# Altium schematic symbol library Schlib1.SchLib: 20 symbols
Pins are listed as number, name and electrical type; pins without a type are passive.

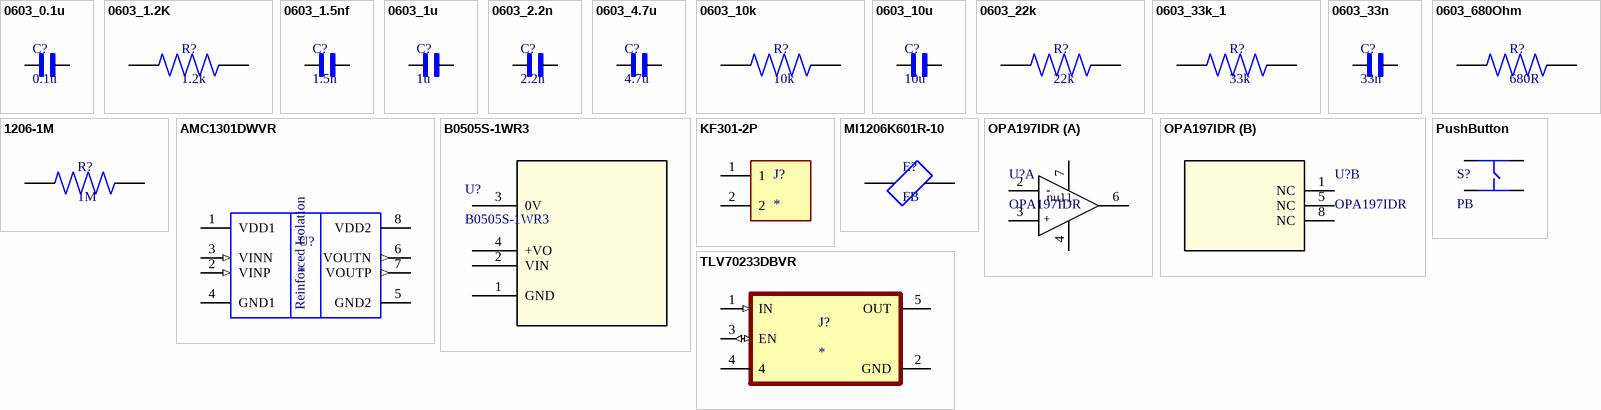
[diagram p0: symbols 0603_0.1u to TLV70233DBVR]

## 0603_0.1u
designator C?, comment 0.1u
100nf,X7R,50V; MF: AVX; MP: 0603YC223KAT2A; SnapEDA_Link: https://www.snapeda.com/parts/0603YC223KAT2A/AVX/view-part/?ref=snap; Package: 1608 AVX; Value: *; Check_prices: https://www.snapeda.com/parts/0603YC223KAT2A/AVX/view-part/?ref=eda
footprint 0603Capacitor
pins: 1, 2

## 0603_1.2K
designator R?, comment 1.2k
1.2k (0.1%-0.5%); MF: Bourns; MP: CRT0603-FY-1000ELF; Purchase-URL: https://pricing.snapeda.com/search/part/CRT0603-FY-1000ELF/?ref=eda; Value: *; SnapEDA_Link: https://www.snapeda.com/parts/CRT0603-FY-1000ELF/Bourns/view-part/?ref=snap; Package: 1508 Bourns; Check_prices: https://www.snapeda.com/parts/CRT0603-FY-1000ELF/Bourns/view-part/?ref=eda; Digi-Key_Part_Number: 118-CRT0603-FY-1000ELFTR-ND
footprint 0603Resistor
pins: 1, 2

## 0603_1.5nf
designator C?, comment 1.5n
1.5nf_C0G_50V; MF: AVX; MP: 0603YC223KAT2A; SnapEDA_Link: https://www.snapeda.com/parts/0603YC223KAT2A/AVX/view-part/?ref=snap; Package: 1608 AVX; Value: *; Check_prices: https://www.snapeda.com/parts/0603YC223KAT2A/AVX/view-part/?ref=eda
footprint 0603Capacitor
pins: 1, 2

## 0603_1u
designator C?, comment 1u
1uF,X7R,50V; MF: AVX; MP: 0603YC223KAT2A; SnapEDA_Link: https://www.snapeda.com/parts/0603YC223KAT2A/AVX/view-part/?ref=snap; Package: 1608 AVX; Value: *; Check_prices: https://www.snapeda.com/parts/0603YC223KAT2A/AVX/view-part/?ref=eda
footprint 0603Capacitor
pins: 1, 2

## 0603_2.2n
designator C?, comment 2.2n
2.2nF,C0G,50V; MF: AVX; MP: 0603YC223KAT2A; SnapEDA_Link: https://www.snapeda.com/parts/0603YC223KAT2A/AVX/view-part/?ref=snap; Package: 1608 AVX; Value: *; Check_prices: https://www.snapeda.com/parts/0603YC223KAT2A/AVX/view-part/?ref=eda
footprint 0603Capacitor
pins: 1, 2

## 0603_4.7u
designator C?, comment 4.7u
4.7uF,X7R,50V; MF: AVX; MP: 0603YC223KAT2A; SnapEDA_Link: https://www.snapeda.com/parts/0603YC223KAT2A/AVX/view-part/?ref=snap; Package: 1608 AVX; Value: *; Check_prices: https://www.snapeda.com/parts/0603YC223KAT2A/AVX/view-part/?ref=eda
footprint 0603Capacitor
pins: 1, 2

## 0603_10k
designator R?, comment 10k
10kOhm; MF: Bourns; MP: CRT0603-FY-1000ELF; Purchase-URL: https://pricing.snapeda.com/search/part/CRT0603-FY-1000ELF/?ref=eda; Value: *; SnapEDA_Link: https://www.snapeda.com/parts/CRT0603-FY-1000ELF/Bourns/view-part/?ref=snap; Package: 1508 Bourns; Check_prices: https://www.snapeda.com/parts/CRT0603-FY-1000ELF/Bourns/view-part/?ref=eda; Digi-Key_Part_Number: 118-CRT0603-FY-1000ELFTR-ND
footprint 0603Resistor
pins: 1, 2

## 0603_10u
designator C?, comment 10u
10uF,X7R,50V; MF: AVX; MP: 0603YC223KAT2A; SnapEDA_Link: https://www.snapeda.com/parts/0603YC223KAT2A/AVX/view-part/?ref=snap; Package: 1608 AVX; Value: *; Check_prices: https://www.snapeda.com/parts/0603YC223KAT2A/AVX/view-part/?ref=eda
footprint 0603Capacitor
pins: 1, 2

## 0603_22k
designator R?, comment 22k
22kOhm_0.1% to 0.5%; MF: Bourns; MP: CRT0603-FY-1000ELF; Purchase-URL: https://pricing.snapeda.com/search/part/CRT0603-FY-1000ELF/?ref=eda; Value: *; SnapEDA_Link: https://www.snapeda.com/parts/CRT0603-FY-1000ELF/Bourns/view-part/?ref=snap; Package: 1508 Bourns; Check_prices: https://www.snapeda.com/parts/CRT0603-FY-1000ELF/Bourns/view-part/?ref=eda; Digi-Key_Part_Number: 118-CRT0603-FY-1000ELFTR-ND
footprint 0603Resistor
pins: 1, 2

## 0603_33k_1
designator R?, comment 33k
33kOhm; MF: Bourns; MP: CRT0603-FY-1000ELF; Purchase-URL: https://pricing.snapeda.com/search/part/CRT0603-FY-1000ELF/?ref=eda; Value: *; SnapEDA_Link: https://www.snapeda.com/parts/CRT0603-FY-1000ELF/Bourns/view-part/?ref=snap; Package: 1508 Bourns; Check_prices: https://www.snapeda.com/parts/CRT0603-FY-1000ELF/Bourns/view-part/?ref=eda; Digi-Key_Part_Number: 118-CRT0603-FY-1000ELFTR-ND
footprint 0603Resistor
pins: 1, 2

## 0603_33n
designator C?, comment 33n
33nf_C0G_50V; MF: AVX; MP: 0603YC223KAT2A; SnapEDA_Link: https://www.snapeda.com/parts/0603YC223KAT2A/AVX/view-part/?ref=snap; Package: 1608 AVX; Value: *; Check_prices: https://www.snapeda.com/parts/0603YC223KAT2A/AVX/view-part/?ref=eda
footprint CAPC1206
pins: 1, 2

## 0603_680Ohm
designator R?, comment 680R
680Ohm-0.1%; MF: Bourns; MP: CRT0603-FY-1000ELF; Purchase-URL: https://pricing.snapeda.com/search/part/CRT0603-FY-1000ELF/?ref=eda; Value: *; SnapEDA_Link: https://www.snapeda.com/parts/CRT0603-FY-1000ELF/Bourns/view-part/?ref=snap; Package: 1508 Bourns; Check_prices: https://www.snapeda.com/parts/CRT0603-FY-1000ELF/Bourns/view-part/?ref=eda; Digi-Key_Part_Number: 118-CRT0603-FY-1000ELFTR-ND
footprint 0603Resistor
pins: 1, 2

## 1206-1M
designator R?, comment 1M
1M Ohms Â±1% 0.25W, 1/4W Chip Resistor 1206 (3216 Metric) Moisture Resistant Thick Film; MF: Yageo; MP: RC1206JR-0713RL; SnapEDA_Link: https://www.snapeda.com/parts/RC1206JR-0713RL/Yageo/view-part/?ref=snap; Package: 3116 Yageo; Value: *; Check_prices: https://www.snapeda.com/parts/RC1206JR-0713RL/Yageo/view-part/?ref=eda
footprint 1M_1206
pins: 1, 2

## AMC1301DWVR
designator U?
250 mV-Input Precision Reinforced Isolated Amplifier for Current Sensing 8-SOIC -40 to 125; MF: Texas Instruments; MP: AMC1301DWVR; Check_prices: https://www.snapeda.com/parts/AMC1301DWVR/Texas+Instruments/view-part/?ref=eda; SnapEDA_Link: https://www.snapeda.com/parts/AMC1301DWVR/Texas+Instruments/view-part/?ref=snap; Availability: In Stock; Price: None; Value: *; Package: SOIC-8 Texas Instruments; Purchase-URL: https://pricing.snapeda.com/search/part/AMC1301DWVR/?ref=eda
footprint AMC1301
pins: 1 VDD1 (power), 2 VINP (in), 3 VINN (in), 4 GND1 (power), 5 GND2 (power), 6 VOUTN (out), 7 VOUTP (out), 8 VDD2 (power)
text: Reinforced Isolation

## B0505S-1WR3
designator U?
Description; Manufacturer_Name: MORNSUN; Type: DC DC Converters; Copyright: Copyright (C) 2026 Ultra Librarian. All rights reserved.; Manufacturer_Part_Number: B0505S-1WR3; RefDes: RefDes
footprint B0505S
pins: 1 GND (power), 2 VIN (power), 3 0V, 4 +VO (power)

## KF301-2P
designator J?
2 Pin Terminal Block 5mm Pitch; MF: Handson Technology; MP: KF301-2P; SnapEDA_Link: https://www.snapeda.com/parts/KF301-2P/Handson+Technology/view-part/?ref=snap; Package: None; Value: *; Check_prices: https://www.snapeda.com/parts/KF301-2P/Handson+Technology/view-part/?ref=eda
footprint HANDSON_KF301-2P
pins: 1, 2

## MI1206K601R-10
designator E?, comment FB
600 Ohms @ 100 MHz 1 Power, Signal Line Ferrite Bead 1206 (3216 Metric) 1.5A 80mOhm; MF: Laird-Signal Integrity; MP: MI1206K601R-10; SnapEDA_Link: https://www.snapeda.com/parts/MI1206K601R-10/Laird-Signal+Integrity+Products/view-part/?ref=snap; Package: 1206 Laird; Value: *; Check_prices: https://www.snapeda.com/parts/MI1206K601R-10/Laird-Signal+Integrity+Products/view-part/?ref=eda
footprint FB_MI1206K601R-10
pins: 1, 2

## OPA197IDR
designator U?
Single, 36-V, precision, rail-to-rail input output, low offset voltage op amp 8-SOIC -40 to 125; Manufacturer_Name: Texas Instruments; TYPE: TYPE; RefDes: RefDes; Copyright: Copyright (C) 2026 Ultra Librarian. All rights reserved.; Manufacturer_Part_Number: OPA197IDR
footprint D0008A-MFG
part A pins: 2 -IN (hiz), 3 +IN (hiz), 4 V- (power), 6 OUT, 7 V+ (power)
part B pins: 1 NC, 5 NC, 8 NC
part A text: -; null; +

## PushButton
designator S?, comment PB
footprint Push_button
pins: 1, 2, 3, 4

## TLV70233DBVR
designator J?
300-mA, high-PSRR, low-IQ, low-dropout voltage regulator with enable; MF: Texas Instruments; MP: TLV70233DBVR; SnapEDA_Link: https://www.snapeda.com/parts/TLV70233DBVR/Texas+Instruments/view-part/?ref=snap; Package: SOT-23-5 Texas Instruments; Value: *; Check_prices: https://www.snapeda.com/parts/TLV70233DBVR/Texas+Instruments/view-part/?ref=eda
footprint TLV70233
pins: 1 IN (in), 2 GND (power), 3 EN (io), 4 (power), 5 OUT (power)